# Altium footprint library DO-214AC-2.PcbLib: 1 footprints
Each footprint in its own frame and in the unit in brackets; x right, y up, seen from the top. Pads: shape width x height; smd on the part's side, far side on the other; paste and mask are expansions set on the pad; w line width, h text height; cw(c..) or ccw(c..) is an arc to the next point about the centre after c.
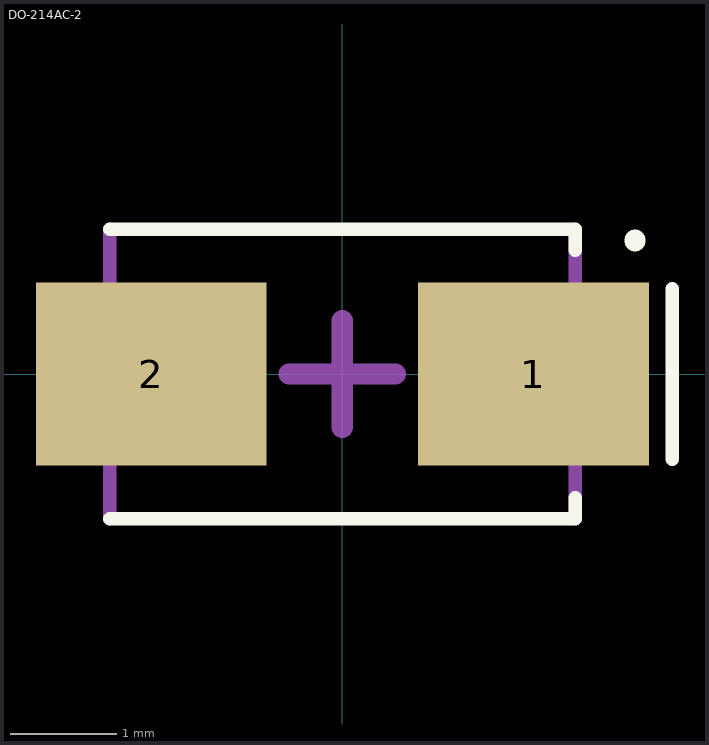
[diagram p0: the footprint, top view; thin cyan lines are the x and y axes]

## DO-214AC-2 [mm]
pads (2):
  rect 2.17x1.72 smd mask+0: 1(1.795,0) 2(-1.795,0)
Top Overlay:
  lines w0.127: -2.187,-1.362 2.188,-1.362 2.188,-1.162 ; -2.187,1.362 2.188,1.362 2.188,1.162 ; 3.1,-0.8 3.1,0.8
  lines w0.2: 2.75,1.25 2.75,1.26
Mechanical 13:
  lines w0.127: -2.187,-1.362 -2.187,1.362 ; 2.188,-1.362 2.188,1.362
Mechanical 15:
  lines w0.2: -0.5,0 0,0 ; 0,-0.5 0,0 ; 0,0.5 0,0 ; 0.5,0 0,0
3D body "SMA DO-214AC.STEP": height 2.3, standoff 0, extent -2.6,-1.45 2.6,1.45